# EAGLE library part OSM_1.2_SIZE_L (library Bauteile)
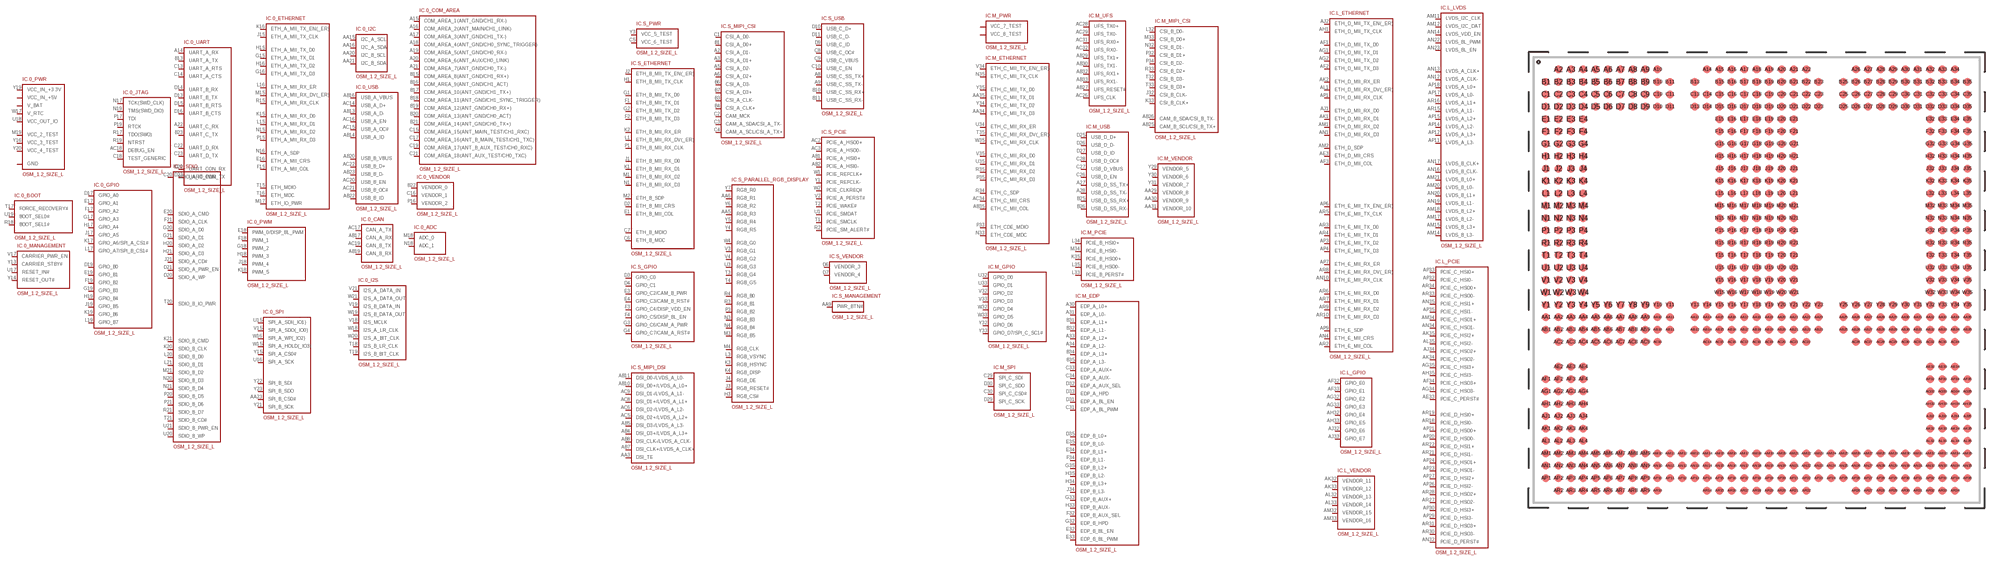
[diagram p212: symbol with the pads of OSM_1.2_SIZE_L; footprint OSM_1.2_SIZE_L]

Designator prefix IC; gates .0_PWR=OSM_1.2_SIZE_0_POWER .0_BOOT=OSM_1.2_SIZE_0_BOOT .0_JTAG=OSM_1.2_SIZE_0_JTAG .0_UART=OSM_1.2_SIZE_0_UART .0_ETHERNET=OSM_1.2_SIZE_0_ETHERNET .0_GPIO=OSM_1.2_SIZE_0_GPIO .0_SDIO=OSM_1.2_SIZE_0_SDIO .0_PWM=OSM_1.2_SIZE_0_PWM .0_ADC=OSM_1.2_SIZE_0_ADC .0_SPI=OSM_1.2_SIZE_0_SPI .0_I2S=OSM_1.2_SIZE_0_I2S .0_CAN=OSM_1.2_SIZE_0_CAN .0_USB=OSM_1.2_SIZE_0_USB .0_I2C=OSM_1.2_SIZE_0_I2C .0_COM_AREA=OSM_1.2_SIZE_0_COM_AREA .0_VENDOR=OSM_1.2_SIZE_0_VENDOR .0_MANAGEMENT=OSM_1.2_SIZE_0_MANAGEMENT .S_PWR=OSM_1.2_SIZE_S_POWER .S_ETHERNET=OSM_1.2_SIZE_S_ETHERNET .S_GPIO=OSM_1.2_SIZE_S_GPIO .S_MIPI_DSI=OSM_1.2_SIZE_S_MIPI_DSI .S_MIPI_CSI=OSM_1.2_SIZE_S_MIPI_CSI .S_PARALLEL_RGB_DISPLAY=OSM_1.2_SIZE_S_PARALLEL_RGB_DISPLAY .S_USB=OSM_1.2_SIZE_S_USB .S_PCIE=OSM_1.2_SIZE_S_PCIE .S_VENDOR=OSM_1.2_SIZE_S_VENDOR .S_MANAGEMENT=OSM_1.2_SIZE_S_MANAGEMENT .M_PWR=OSM_1.2_SIZE_M_POWER .M_ETHERNET=OSM_1.2_SIZE_M_ETHERNET .M_GPIO=OSM_1.2_SIZE_M_GPIO .M_SPI=OSM_1.2_SIZE_M_SPI .M_UFS=OSM_1.2_SIZE_M_UFS .M_USB=OSM_1.2_SIZE_M_USB .M_PCIE=OSM_1.2_SIZE_M_PCIE .M_EDP=OSM_1.2_SIZE_M_EDP(++) .M_MIPI_CSI=OSM_1.2_SIZE_M_MIPI_CSI .M_VENDOR=OSM_1.2_SIZE_M_VENDOR .L_ETHERNET=OSM_1.2_SIZE_L_ETHERNET .L_GPIO=OSM_1.2_SIZE_L_GPIO .L_LVDS=OSM_1.2_SIZE_L_LVDS .L_PCIE=OSM_1.2_SIZE_L_PCIE .L_VENDOR=OSM_1.2_SIZE_L_VENDOR

## OSM_1.2_SIZE_L  [OSM_1.2_SIZE_L]
A2  .S_MIPI_CSI:CSI_A_D1-
A3  .S_MIPI_CSI:CSI_A_D1+
A4  .0_PWR:GND
A5  .S_MIPI_CSI:CSI_A_D2-
A6  .S_MIPI_CSI:CSI_A_D2+
A7  .0_PWR:GND
A8  .S_USB:USB_C_SS_TX+
A9  .S_USB:USB_C_SS_TX-
A10  .0_PWR:GND
A14  .0_UART:UART_A_RX
A15  .0_COM_AREA:COM_AREA_1(ANT_GND/CH1_RX-)
A16  .0_COM_AREA:COM_AREA_2(ANT_MAIN/CH1_LINK)
A17  .0_COM_AREA:COM_AREA_3(ANT_GND/CH1_TX-)
A18  .0_COM_AREA:COM_AREA_4(ANT_GND/CH0_SYNC_TRIGGER)
A19  .0_COM_AREA:COM_AREA_5(ANT_GND/CH0_RX-)
A20  .0_COM_AREA:COM_AREA_6(ANT_AUX/CH0_LINK)
A21  .0_COM_AREA:COM_AREA_7(ANT_GND/CH0_TX-)
A22  .0_UART:UART_C_RX
A26  .0_PWR:GND
A27  .M_USB:USB_D_SS_TX+
A28  .M_USB:USB_D_SS_TX-
A29  .0_PWR:GND
A30  .M_EDP:EDP_A_L0+
A31  .M_EDP:EDP_A_L0-
A32  .0_PWR:GND
A33  .M_EDP:EDP_A_L2+
A34  .M_EDP:EDP_A_L2-
AA1  .0_PWR:GND
AA3  .S_MIPI_DSI:DSI_TE
AA4  .0_PWR:GND
AA5  .S_PARALLEL_RGB_DISPLAY:RGB_R3
AA6  .S_PARALLEL_RGB_DISPLAY:RGB_R1
AA7  .0_PWR:GND
AA8  .0_PWR:GND
AA9  .S_MANAGEMENT:PWR_BTN#
AA10  .0_PWR:GND
AA11  .0_PWR:GND
AA14  .0_PWR:GND
AA15  .0_I2C:I2C_A_SCL
AA16  .0_I2C:I2C_A_SDA
AA17  .0_PWR:GND
AA18  .0_PWR:V_BAT
AA19  .0_PWR:GND
AA20  .0_I2C:I2C_B_SCL
AA21  .0_I2C:I2C_B_SDA
AA22  .0_PWR:GND
AA23  .0_SPI:SPI_B_CS0#
AA25  .0_PWR:GND
AA26  .0_PWR:GND
AA27  .0_PWR:GND
AA28  .0_PWR:GND
AA29  .M_VENDOR:VENDOR_8
AA30  .M_VENDOR:VENDOR_9
AA31  .M_VENDOR:VENDOR_10
AA32  .0_PWR:GND
AA33  .M_PWR:VCC_7_TEST
AA34  .M_ETHERNET:ETH_C_MII_TX_D3
AA35  .M_ETHERNET:ETH_C_MII_TX_D1
AB1  .S_PCIE:PCIE_A_HSI0+
AB2  .S_PCIE:PCIE_A_HSI0-
AB3  .0_PWR:GND
AB4  .S_MIPI_DSI:DSI_D3+/LVDS_A_L3+
AB5  .S_MIPI_DSI:DSI_D3-/LVDS_A_L3-
AB6  .0_PWR:GND
AB7  .S_MIPI_DSI:DSI_CLK+/LVDS_A_CLK+
AB8  .S_MIPI_DSI:DSI_CLK-/LVDS_A_CLK-
AB9  .0_PWR:GND
AB10  .S_MIPI_DSI:DSI_D0+/LVDS_A_L0+
AB11  .S_MIPI_DSI:DSI_D0-/LVDS_A_L0-
AB13  .0_USB:USB_A_D-
AB14  .0_USB:USB_A_ID
AB15  .0_PWR:GND
AB16  .0_USB:USB_A_VBUS
AB17  .0_CAN:CAN_A_RX
AB18  .0_PWR:V_BAT
AB19  .0_CAN:CAN_B_RX
AB20  .0_USB:USB_B_VBUS
AB21  .0_PWR:GND
AB22  .0_USB:USB_B_ID
AB23  .0_USB:USB_B_D-
AB25  .M_MIPI_CSI:CAM_B_SCL/CSI_B_TX+
AB26  .M_MIPI_CSI:CAM_B_SDA/CSI_B_TX-
AB27  .M_UFS:UFS_RESET#
AB28  .0_PWR:GND
AB29  .M_UFS:UFS_TX1+
AB30  .M_UFS:UFS_TX1-
AB31  .0_PWR:GND
AB32  .M_UFS:UFS_RX1+
AB33  .M_UFS:UFS_RX1-
AB34  .0_PWR:GND
AB35  .M_ETHERNET:ETH_C_MII_COL
AC2  .S_PCIE:PCIE_A_HSO0+
AC3  .S_PCIE:PCIE_A_HSO0-
AC4  .0_PWR:GND
AC5  .S_MIPI_DSI:DSI_D2+/LVDS_A_L2+
AC6  .S_MIPI_DSI:DSI_D2-/LVDS_A_L2-
AC7  .0_PWR:GND
AC8  .S_MIPI_DSI:DSI_D1+/LVDS_A_L1+
AC9  .S_MIPI_DSI:DSI_D1-/LVDS_A_L1-
AC10  .0_PWR:GND
AC14  .0_USB:USB_A_D+
AC15  .0_USB:USB_A_OC#
AC16  .0_USB:USB_A_EN
AC17  .0_CAN:CAN_A_TX
AC18  .0_JTAG:DEBUG_EN
AC19  .0_CAN:CAN_B_TX
AC20  .0_USB:USB_B_EN
AC21  .0_USB:USB_B_OC#
AC22  .0_USB:USB_B_D+
AC26  .M_UFS:UFS_CLK
AC27  .0_PWR:GND
AC28  .M_UFS:UFS_TX0+
AC29  .M_UFS:UFS_TX0-
AC30  .0_PWR:GND
AC31  .M_UFS:UFS_RX0+
AC32  .M_UFS:UFS_RX0-
AC33  .0_PWR:GND
AC34  .M_ETHERNET:ETH_C_MII_CRS
AE2  .0_PWR:GND
AE3  .L_ETHERNET:ETH_D_MII_CRS
AE4  .0_PWR:VCC_IN_+5V
AE33  .L_PCIE:PCIE_C_PERST#
AE34  .0_PWR:GND
AF1  .L_ETHERNET:ETH_D_MII_TX_D0
AF2  .L_ETHERNET:ETH_D_MII_TX_D3
AF3  .L_ETHERNET:ETH_D_MII_COL
AF4  .0_PWR:VCC_IN_+5V
AF32  .L_GPIO:GPIO_E0
AF33  .L_GPIO:GPIO_E1
AF34  .L_PCIE:PCIE_C_HSO3+
AF35  .0_PWR:GND
AG1  .L_ETHERNET:ETH_D_MII_TX_D1
AG2  .L_ETHERNET:ETH_D_MII_TX_D2
AG3  .0_PWR:GND
AG4  .0_PWR:VCC_IN_+5V
AG32  .L_GPIO:GPIO_E2
AG33  .L_GPIO:GPIO_E3
AG34  .L_PCIE:PCIE_C_HSO3-
AG35  .L_PCIE:PCIE_C_HSI3+
AH1  .L_ETHERNET:ETH_D_MII_TX_CLK
AH2  .0_PWR:GND
AH3  .0_PWR:VCC_IN_+5V
AH4  .0_PWR:VCC_IN_+5V
AH32  .L_GPIO:GPIO_E4
AH33  .L_GPIO:GPIO_E5
AH34  .0_PWR:GND
AH35  .L_PCIE:PCIE_C_HSI3-
AJ1  .L_ETHERNET:ETH_D_MII_RX_D0
AJ2  .L_ETHERNET:ETH_D_MII_TX_EN(_ER)
AJ3  .0_PWR:VCC_IN_+5V
AJ4  .0_PWR:VCC_IN_+5V
AJ32  .L_GPIO:GPIO_E6
AJ33  .L_GPIO:GPIO_E7
AJ34  .L_PCIE:PCIE_C_HSO2+
AJ35  .0_PWR:GND
AK1  .L_ETHERNET:ETH_D_MII_RX_D1
AK2  .L_ETHERNET:ETH_D_MII_RX_ER
AK3  .0_PWR:GND
AK4  .0_PWR:VCC_IN_+5V
AK32  .L_VENDOR:VENDOR_11
AK33  .L_VENDOR:VENDOR_12
AK34  .L_PCIE:PCIE_C_HSO2-
AK35  .L_PCIE:PCIE_C_HSI2+
AL1  .L_ETHERNET:ETH_D_MII_RX_DV(_ER)
AL2  .0_PWR:GND
AL32  .L_VENDOR:VENDOR_13
AL33  .L_VENDOR:VENDOR_14
AL34  .0_PWR:GND
AL35  .L_PCIE:PCIE_C_HSI2-
AM1  .L_ETHERNET:ETH_D_MII_RX_D2
AM2  .L_ETHERNET:ETH_D_SDP
AM11  .L_LVDS:LVDS_I2C_CLK
AM12  .L_LVDS:LVDS_I2C_DAT
AM13  .0_PWR:GND
AM14  .L_LVDS:LVDS_B_L3-
AM15  .L_LVDS:LVDS_B_L3+
AM16  .0_PWR:GND
AM17  .L_LVDS:LVDS_B_L2-
AM18  .L_LVDS:LVDS_B_L2+
AM19  .0_PWR:GND
AM20  .L_LVDS:LVDS_B_L0-
AM21  .L_LVDS:LVDS_B_L0+
AM22  .0_PWR:GND
AM32  .L_VENDOR:VENDOR_15
AM33  .L_VENDOR:VENDOR_16
AM34  .L_PCIE:PCIE_C_HSO1+
AM35  .0_PWR:GND
AN1  .L_ETHERNET:ETH_D_MII_RX_D3
AN3  .0_PWR:GND
AN4  .L_ETHERNET:ETH_E_MII_CRS
AN6  .0_PWR:GND
AN9  .0_PWR:GND
AN10  .L_ETHERNET:ETH_E_MII_RX_CLK
AN11  .0_PWR:GND
AN12  .L_LVDS:LVDS_A_CLK-
AN13  .L_LVDS:LVDS_A_CLK+
AN14  .L_LVDS:LVDS_VDD_EN
AN15  .0_PWR:GND
AN16  .L_LVDS:LVDS_B_CLK-
AN17  .L_LVDS:LVDS_B_CLK+
AN18  .0_PWR:GND
AN19  .L_LVDS:LVDS_B_L1-
AN20  .L_LVDS:LVDS_B_L1+
AN21  .0_PWR:GND
AN22  .L_LVDS:LVDS_BL_PWM
AN23  .L_LVDS:LVDS_BL_EN
AN32  .L_PCIE:PCIE_D_PERST#
AN33  .0_PWR:GND
AN34  .L_PCIE:PCIE_C_HSO1-
AN35  .L_PCIE:PCIE_C_HSI1+
AP1  .L_ETHERNET:ETH_D_MII_RX_CLK
AP2  .0_PWR:GND
AP3  .L_ETHERNET:ETH_E_MII_TX_D2
AP4  .L_ETHERNET:ETH_E_MII_TX_D3
AP5  .0_PWR:GND
AP6  .L_ETHERNET:ETH_E_MII_TX_EN(_ER)
AP7  .L_ETHERNET:ETH_E_MII_RX_ER
AP8  .0_PWR:GND
AP9  .L_ETHERNET:ETH_E_SDP
AP11  .L_LVDS:LVDS_A_L3-
AP12  .L_LVDS:LVDS_A_L3+
AP13  .0_PWR:GND
AP14  .L_LVDS:LVDS_A_L2-
AP15  .L_LVDS:LVDS_A_L2+
AP16  .0_PWR:GND
AP17  .L_LVDS:LVDS_A_L0-
AP18  .L_LVDS:LVDS_A_L0+
AP19  .0_PWR:GND
AP20  .L_PCIE:PCIE_D_HSO0-
AP21  .L_PCIE:PCIE_D_HSO0+
AP22  .0_PWR:GND
AP23  .L_PCIE:PCIE_D_HSO1-
AP24  .L_PCIE:PCIE_D_HSO1+
AP25  .0_PWR:GND
AP26  .L_PCIE:PCIE_D_HSI2-
AP27  .L_PCIE:PCIE_D_HSI2+
AP28  .0_PWR:GND
AP29  .L_PCIE:PCIE_D_HSI3-
AP30  .L_PCIE:PCIE_D_HSI3+
AP31  .0_PWR:GND
AP32  .L_PCIE:PCIE_C_HSI0-
AP33  .L_PCIE:PCIE_C_HSI0+
AP34  .0_PWR:GND
AP35  .L_PCIE:PCIE_C_HSI1-
AR2  .L_ETHERNET:ETH_E_MII_COL
AR3  .L_ETHERNET:ETH_E_MII_TX_D0
AR4  .L_ETHERNET:ETH_E_MII_TX_D1
AR5  .L_ETHERNET:ETH_E_MII_TX_CLK
AR6  .L_ETHERNET:ETH_E_MII_RX_D0
AR7  .L_ETHERNET:ETH_E_MII_RX_D1
AR8  .L_ETHERNET:ETH_E_MII_RX_DV(_ER)
AR9  .L_ETHERNET:ETH_E_MII_RX_D2
AR10  .L_ETHERNET:ETH_E_MII_RX_D3
AR14  .0_PWR:GND
AR15  .L_LVDS:LVDS_A_L1-
AR16  .L_LVDS:LVDS_A_L1+
AR17  .0_PWR:GND
AR18  .L_PCIE:PCIE_D_HSI0-
AR19  .L_PCIE:PCIE_D_HSI0+
AR20  .0_PWR:GND
AR21  .L_PCIE:PCIE_D_HSI1-
AR22  .L_PCIE:PCIE_D_HSI1+
AR26  .0_PWR:GND
AR27  .L_PCIE:PCIE_D_HSO2-
AR28  .L_PCIE:PCIE_D_HSO2+
AR29  .0_PWR:GND
AR30  .L_PCIE:PCIE_D_HSO3-
AR31  .L_PCIE:PCIE_D_HSO3+
AR32  .0_PWR:GND
AR33  .L_PCIE:PCIE_C_HSO0-
AR34  .L_PCIE:PCIE_C_HSO0+
B1  .S_MIPI_CSI:CSI_A_D0+
B2  .0_PWR:GND
B3  .S_MIPI_CSI:CSI_A_CLK-
B4  .S_MIPI_CSI:CSI_A_CLK+
B5  .0_PWR:GND
B6  .S_MIPI_CSI:CSI_A_D3-
B7  .S_MIPI_CSI:CSI_A_D3+
B8  .0_PWR:GND
B9  .0_PWR:GND
B10  .S_USB:USB_C_SS_RX+
B11  .S_USB:USB_C_SS_RX-
B13  .0_UART:UART_A_TX
B15  .0_COM_AREA:COM_AREA_8(ANT_GND/CH1_RX+)
B16  .0_COM_AREA:COM_AREA_9(ANT_GND/CH1_ACT)
B17  .0_COM_AREA:COM_AREA_10(ANT_GND/CH1_TX+)
B18  .0_COM_AREA:COM_AREA_11(ANT_GND/CH1_SYNC_TRIGGER)
B19  .0_COM_AREA:COM_AREA_12(ANT_GND/CH0_RX+)
B20  .0_COM_AREA:COM_AREA_13(ANT_GND/CH0_ACT)
B21  .0_COM_AREA:COM_AREA_14(ANT_GND/CH0_TX+)
B22  .0_VENDOR:VENDOR_0
B23  .0_UART:UART_C_TX
B25  .M_USB:USB_D_SS_RX+
B26  .M_USB:USB_D_SS_RX-
B27  .0_PWR:GND
B28  .0_PWR:GND
B29  .M_PWR:VCC_8_TEST
B30  .0_PWR:GND
B31  .M_EDP:EDP_A_L1+
B32  .M_EDP:EDP_A_L1-
B33  .0_PWR:GND
B34  .M_EDP:EDP_A_L3+
B35  .M_EDP:EDP_A_L3-
C1  .S_MIPI_CSI:CSI_A_D0-
C2  .S_MIPI_CSI:CAM_MCK
C3  .S_MIPI_CSI:CAM_A_SDA/CSI_A_TX-
C4  .S_MIPI_CSI:CAM_A_SCL/CSI_A_TX+
C5  .S_PWR:VCC_6_TEST
C6  .S_ETHERNET:ETH_B_MDC
C7  .S_ETHERNET:ETH_B_MDIO
C8  .S_USB:USB_C_OC#
C9  .S_USB:USB_C_VBUS
C10  .S_USB:USB_C_EN
C11  .0_PWR:GND
C13  .0_UART:UART_A_RTS
C14  .0_UART:UART_A_CTS
C15  .0_COM_AREA:COM_AREA_15(ANT_MAIN_TEST/CH1_RXC)
C16  .0_VENDOR:VENDOR_1
C17  .0_COM_AREA:COM_AREA_16(ANT_B_MAIN_TEST/CH1_TXC)
C18  .0_JTAG:TEST_GENERIC
C19  .0_COM_AREA:COM_AREA_17(ANT_B_AUX_TEST/CH0_RXC)
C20  .0_SDIO:SDIO_A_IO_PWR
C21  .0_COM_AREA:COM_AREA_18(ANT_AUX_TEST/CH0_TXC)
C22  .0_UART:UART_D_RX
C23  .0_UART:UART_D_TX
C25  .0_PWR:GND
C26  .M_USB:USB_D_EN
C27  .M_USB:USB_D_VBUS
C28  .M_USB:USB_D_OC#
C29  .M_SPI:SPI_C_SDI
C30  .M_SPI:SPI_C_CS0#
C31  .M_EDP:EDP_A_BL_PWM
C32  .0_PWR:GND
C33  .M_EDP:EDP_A_AUX+
C34  .M_EDP:EDP_A_AUX-
C35  .0_PWR:GND
D1  .0_PWR:GND
D2  .S_ETHERNET:ETH_B_MII_CRS
D3  .S_GPIO:GPIO_C0
D4  .S_GPIO:GPIO_C1
D5  .0_PWR:GND
D6  .S_VENDOR:VENDOR_3
D7  .S_VENDOR:VENDOR_4
D8  .0_PWR:GND
D9  .S_USB:USB_C_ID
D10  .S_USB:USB_C_D+
D11  .S_USB:USB_C_D-
D13  .0_UART:UART_B_TX
D14  .0_UART:UART_B_RX
D15  .0_UART:UART_B_RTS
D16  .0_UART:UART_B_CTS
D17  .0_GPIO:GPIO_A0
D18  .0_PWR:GND
D19  .0_GPIO:GPIO_B0
D20  .0_SDIO:SDIO_A_WP
D21  .0_SDIO:SDIO_A_PWR_EN
D22  .0_UART:UART_CON_RX
D23  .0_UART:UART_CON_TX
D25  .M_USB:USB_D_D+
D26  .M_USB:USB_D_D-
D27  .M_USB:USB_D_ID
D28  .0_PWR:GND
D29  .M_SPI:SPI_C_SCK
D30  .M_SPI:SPI_C_SDO
D31  .M_EDP:EDP_A_BL_EN
D32  .M_EDP:EDP_A_AUX_SEL
D33  .M_EDP:EDP_A_HPD
D34  .0_PWR:GND
D35  .M_EDP:EDP_B_L0+
E1  .S_ETHERNET:ETH_B_MII_COL
E2  .0_PWR:GND
E3  .S_GPIO:GPIO_C2/CAM_B_PWR
E4  .S_GPIO:GPIO_C3/CAM_B_RST#
E15  .0_PWR:GND
E16  .0_ETHERNET:ETH_A_MII_CRS
E17  .0_GPIO:GPIO_A1
E18  .0_PWM:PWM_0/DISP_BL_PWM
E19  .0_GPIO:GPIO_B1
E20  .0_SDIO:SDIO_A_CMD
E21  .0_PWR:GND
E32  .M_EDP:EDP_B_BL_EN
E33  .M_EDP:EDP_B_BL_PWM
E34  .M_EDP:EDP_B_L1+
E35  .M_EDP:EDP_B_L0-
F1  .S_ETHERNET:ETH_B_MII_TX_D1
F2  .S_ETHERNET:ETH_B_MII_TX_D3
F3  .S_GPIO:GPIO_C4/DISP_VDD_EN
F4  .S_GPIO:GPIO_C5/DISP_BL_EN
F15  .0_ETHERNET:ETH_A_MII_COL
F16  .0_PWR:GND
F17  .0_GPIO:GPIO_A2
F18  .0_PWM:PWM_1
F19  .0_GPIO:GPIO_B2
F20  .0_PWR:GND
F21  .0_SDIO:SDIO_A_CLK
F32  .M_EDP:EDP_B_AUX_SEL
F33  .0_PWR:GND
F34  .M_EDP:EDP_B_L1-
F35  .0_PWR:GND
G1  .S_ETHERNET:ETH_B_MII_TX_D0
G2  .S_ETHERNET:ETH_B_MII_TX_D2
G3  .S_GPIO:GPIO_C6/CAM_A_PWR
G4  .S_GPIO:GPIO_C7/CAM_A_RST#
G15  .0_ETHERNET:ETH_A_MII_TX_D1
G16  .0_ETHERNET:ETH_A_MII_TX_D3
G17  .0_GPIO:GPIO_A3
G18  .0_PWM:PWM_2
G19  .0_GPIO:GPIO_B3
G20  .0_SDIO:SDIO_A_D0
G21  .0_SDIO:SDIO_A_D1
G32  .M_EDP:EDP_B_HPD
G33  .M_EDP:EDP_B_AUX+
G34  .0_PWR:GND
G35  .M_EDP:EDP_B_L2+
H1  .S_ETHERNET:ETH_B_MII_TX_CLK
H2  .0_PWR:GND
H3  .S_PARALLEL_RGB_DISPLAY:RGB_CS#
H4  .0_PWR:GND
H15  .0_ETHERNET:ETH_A_MII_TX_D0
H16  .0_ETHERNET:ETH_A_MII_TX_D2
H17  .0_GPIO:GPIO_A4
H18  .0_PWM:PWM_3
H19  .0_GPIO:GPIO_B4
H20  .0_SDIO:SDIO_A_D2
H21  .0_SDIO:SDIO_A_D3
H32  .0_PWR:GND
H33  .M_EDP:EDP_B_AUX-
H34  .M_EDP:EDP_B_L3+
H35  .M_EDP:EDP_B_L2-
J1  .S_ETHERNET:ETH_B_MII_RX_D0
J2  .S_ETHERNET:ETH_B_MII_TX_EN(_ER)
J3  .S_PARALLEL_RGB_DISPLAY:RGB_RESET#
J4  .S_PARALLEL_RGB_DISPLAY:RGB_DE
J15  .0_ETHERNET:ETH_A_MII_TX_CLK
J16  .0_PWR:GND
J17  .0_GPIO:GPIO_A5
J18  .0_PWM:PWM_4
J19  .0_GPIO:GPIO_B5
J20  .0_PWR:GND
J21  .0_SDIO:SDIO_A_CD#
J32  .M_MIPI_CSI:CSI_B_CLK-
J33  .0_PWR:GND
J34  .M_EDP:EDP_B_L3-
J35  .0_PWR:GND
K1  .S_ETHERNET:ETH_B_MII_RX_D1
K2  .S_ETHERNET:ETH_B_MII_RX_ER
K3  .S_PARALLEL_RGB_DISPLAY:RGB_HSYNC
K4  .S_PARALLEL_RGB_DISPLAY:RGB_DISP
K15  .0_ETHERNET:ETH_A_MII_RX_D0
K16  .0_ETHERNET:ETH_A_MII_TX_EN(_ER)
K17  .0_GPIO:GPIO_A6/SPI_A_CS1#
K18  .0_PWM:PWM_5
K19  .0_GPIO:GPIO_B6
K20  .0_SDIO:SDIO_B_CLK
K21  .0_SDIO:SDIO_B_CMD
K32  .0_PWR:GND
K33  .M_MIPI_CSI:CSI_B_CLK+
K34  .0_PWR:GND
K35  .M_PCIE:PCIE_B_HSO0+
L1  .S_ETHERNET:ETH_B_MII_RX_DV(_ER)
L2  .0_PWR:GND
L3  .S_PARALLEL_RGB_DISPLAY:RGB_VSYNC
L4  .0_PWR:GND
L15  .0_ETHERNET:ETH_A_MII_RX_D1
L16  .0_ETHERNET:ETH_A_MII_RX_ER
L17  .0_GPIO:GPIO_A7/SPI_B_CS1#
L18  .0_PWR:GND
L19  .0_GPIO:GPIO_B7
L20  .0_SDIO:SDIO_B_D0
L21  .0_SDIO:SDIO_B_D1
L32  .M_MIPI_CSI:CSI_B_D0-
L33  .M_PCIE:PCIE_B_PERST#
L34  .M_PCIE:PCIE_B_HSI0+
L35  .M_PCIE:PCIE_B_HSO0-
M1  .S_ETHERNET:ETH_B_MII_RX_D2
M2  .S_ETHERNET:ETH_B_SDP
M3  .S_PARALLEL_RGB_DISPLAY:RGB_B5
M4  .S_PARALLEL_RGB_DISPLAY:RGB_CLK
M15  .0_ETHERNET:ETH_A_MII_RX_DV(_ER)
M16  .0_PWR:GND
M17  .0_ETHERNET:ETH_IO_PWR
M18  .0_ADC:ADC_0
M19  .0_PWR:VCC_2_TEST
M20  .0_PWR:GND
M21  .0_SDIO:SDIO_B_D2
M32  .0_PWR:GND
M33  .M_MIPI_CSI:CSI_B_D0+
M34  .M_PCIE:PCIE_B_HSI0-
M35  .0_PWR:GND
N1  .S_ETHERNET:ETH_B_MII_RX_D3
N3  .S_PARALLEL_RGB_DISPLAY:RGB_B3
N4  .S_PARALLEL_RGB_DISPLAY:RGB_B4
N15  .0_ETHERNET:ETH_A_MII_RX_D2
N16  .0_ETHERNET:ETH_A_SDP
N17  .0_JTAG:TCK(SWD_CLK)
N18  .0_ADC:ADC_1
N19  .0_JTAG:TMS(SWD_DIO)
N20  .0_SDIO:SDIO_B_D3
N21  .0_SDIO:SDIO_B_D4
N32  .M_MIPI_CSI:CSI_B_D1-
N33  .M_ETHERNET:ETH_CDE_MDC
N34  .0_PWR:GND
N35  .M_ETHERNET:ETH_C_MII_TX_CLK
P1  .S_ETHERNET:ETH_B_MII_RX_CLK
P2  .0_PWR:GND
P3  .S_PARALLEL_RGB_DISPLAY:RGB_B2
P4  .0_PWR:GND
P15  .0_ETHERNET:ETH_A_MII_RX_D3
P16  .0_VENDOR:VENDOR_2
P17  .0_JTAG:TDI
P18  .0_PWR:GND
P19  .0_JTAG:RTCK
P20  .0_SDIO:SDIO_B_D5
P21  .0_SDIO:SDIO_B_D6
P32  .M_MIPI_CSI:CSI_B_D1+
P33  .M_ETHERNET:ETH_CDE_MDIO
P34  .M_MIPI_CSI:CSI_B_D2-
P35  .M_ETHERNET:ETH_C_MII_RX_D3
R1  .0_PWR:GND
R2  .S_PCIE:PCIE_SM_ALERT#
R3  .S_PARALLEL_RGB_DISPLAY:RGB_B1
R4  .S_PARALLEL_RGB_DISPLAY:RGB_B0
R15  .0_ETHERNET:ETH_A_MII_RX_CLK
R16  .0_PWR:GND
R17  .0_JTAG:TDO(SWO)
R18  .0_BOOT:BOOT_SEL1#
R19  .0_JTAG:NTRST
R20  .0_PWR:GND
R21  .0_SDIO:SDIO_B_D7
R32  .0_PWR:GND
R33  .M_MIPI_CSI:CSI_B_D2+
R34  .M_ETHERNET:ETH_C_SDP
R35  .M_ETHERNET:ETH_C_MII_RX_D2
T1  .S_PCIE:PCIE_SMCLK
T2  .S_PCIE:PCIE_WAKE#
T3  .S_PARALLEL_RGB_DISPLAY:RGB_G4
T4  .S_PARALLEL_RGB_DISPLAY:RGB_G5
T15  .0_ETHERNET:ETH_MDIO
T16  .0_ETHERNET:ETH_MDC
T17  .0_BOOT:FORCE_RECOVERY#
T18  .0_I2S:I2S_B_LR_CLK
T19  .0_I2S:I2S_B_BIT_CLK
T20  .0_SDIO:SDIO_B_IO_PWR
T21  .0_SDIO:SDIO_B_CD#
T32  .M_MIPI_CSI:CSI_B_D3-
T33  .M_MIPI_CSI:CSI_B_D3+
T34  .0_PWR:GND
T35  .M_ETHERNET:ETH_C_MII_RX_DV(_ER)
U1  .S_PCIE:PCIE_SMDAT
U2  .0_PWR:GND
U3  .S_PARALLEL_RGB_DISPLAY:RGB_G3
U4  .0_PWR:GND
U15  .0_SPI:SPI_A_SDI(_IO1)
U16  .0_SPI:SPI_A_SCK
U17  .0_MANAGEMENT:RESET_IN#
U18  .0_PWR:VCC_OUT_IO
U19  .0_BOOT:BOOT_SEL0#
U20  .0_SDIO:SDIO_B_WP
U21  .0_SDIO:SDIO_B_PWR_EN
U32  .M_GPIO:GPIO_D0
U33  .M_GPIO:GPIO_D1
U34  .M_ETHERNET:ETH_C_MII_RX_ER
U35  .M_ETHERNET:ETH_C_MII_RX_D1
V1  .0_PWR:GND
V2  .S_PCIE:PCIE_A_PERST#
V3  .S_PARALLEL_RGB_DISPLAY:RGB_G1
V4  .S_PARALLEL_RGB_DISPLAY:RGB_G2
V15  .0_SPI:SPI_A_SDO(_IO0)
V16  .0_PWR:GND
V17  .0_MANAGEMENT:CARRIER_PWR_EN
V18  .0_I2S:I2S_MCLK
V19  .0_I2S:I2S_B_DATA_IN
V20  .0_PWR:GND
V21  .0_I2S:I2S_A_DATA_IN
V32  .M_GPIO:GPIO_D2
V33  .M_GPIO:GPIO_D3
V34  .M_ETHERNET:ETH_C_MII_TX_EN(_ER)
V35  .M_ETHERNET:ETH_C_MII_RX_D0
W1  .S_PCIE:PCIE_REFCLK+
W2  .S_PCIE:PCIE_CLKREQ#
W3  .0_PWR:GND
W4  .S_PARALLEL_RGB_DISPLAY:RGB_G0
W15  .0_SPI:SPI_A_HOLD(_IO3)
W16  .0_SPI:SPI_A_WP(_IO2)
W17  .0_PWR:V_RTC
W18  .0_I2S:I2S_A_LR_CLK
W19  .0_I2S:I2S_B_DATA_OUT
W20  .0_I2S:I2S_A_BIT_CLK
W21  .0_I2S:I2S_A_DATA_OUT
W32  .M_GPIO:GPIO_D4
W33  .M_GPIO:GPIO_D5
W34  .0_PWR:GND
W35  .M_ETHERNET:ETH_C_MII_RX_CLK
Y1  .S_PCIE:PCIE_REFCLK-
Y2  .0_PWR:GND
Y3  .S_PWR:VCC_5_TEST
Y4  .S_PARALLEL_RGB_DISPLAY:RGB_R5
Y5  .S_PARALLEL_RGB_DISPLAY:RGB_R4
Y6  .S_PARALLEL_RGB_DISPLAY:RGB_R2
Y7  .S_PARALLEL_RGB_DISPLAY:RGB_R0
Y8  .0_PWR:VCC_IN_+5V
Y9  .0_PWR:VCC_IN_+5V
Y10  .0_PWR:VCC_IN_+5V
Y11  .0_PWR:VCC_IN_+5V
Y13  .0_MANAGEMENT:CARRIER_STBY#
Y14  .0_MANAGEMENT:RESET_OUT#
Y15  .0_SPI:SPI_A_CS0#
Y16  .0_PWR:VCC_3_TEST
Y17  .0_PWR:VCC_IN_+5V
Y18  .0_PWR:GND
Y19  .0_PWR:VCC_IN_+3.3V
Y20  .0_PWR:VCC_4_TEST
Y21  .0_SPI:SPI_B_SCK
Y22  .0_SPI:SPI_B_SDI
Y23  .0_SPI:SPI_B_SDO
Y25  .0_PWR:VCC_IN_+5V
Y26  .0_PWR:VCC_IN_+5V
Y27  .0_PWR:VCC_IN_+5V
Y28  .0_PWR:VCC_IN_+5V
Y29  .M_VENDOR:VENDOR_5
Y30  .M_VENDOR:VENDOR_6
Y31  .M_VENDOR:VENDOR_7
Y32  .M_GPIO:GPIO_D6
Y33  .M_GPIO:GPIO_D7/SPI_C_SC1#
Y34  .M_ETHERNET:ETH_C_MII_TX_D2
Y35  .M_ETHERNET:ETH_C_MII_TX_D0

## Footprint OSM_1.2_SIZE_L (pad centres in mm)
smd 0.8 x 0.8: A2 -20,21.25; A3 -18.75,21.25; A4 -17.5,21.25; A5 -16.25,21.25; A6 -15,21.25; A7 -13.75,21.25; A8 -12.5,21.25; A9 -11.25,21.25; A10 -10,21.25; A14 -5,21.25; A15 -3.75,21.25; A16 -2.5,21.25; A17 -1.25,21.25; A18 0,21.25; A19 1.25,21.25; A20 2.5,21.25; A21 3.75,21.25; A22 5,21.25; A26 10,21.25; A27 11.25,21.25; A28 12.5,21.25; A29 13.75,21.25; A30 15,21.25; A31 16.25,21.25; A32 17.5,21.25; A33 18.75,21.25; A34 20,21.25; AA1 -21.25,-3.75; AA2 -20,-3.75; AA3 -18.75,-3.75; AA4 -17.5,-3.75; AA5 -16.25,-3.75; AA6 -15,-3.75; AA7 -13.75,-3.75; AA8 -12.5,-3.75; AA9 -11.25,-3.75; AA10 -10,-3.75; AA11 -8.75,-3.75; AA13 -6.25,-3.75; AA14 -5,-3.75; AA15 -3.75,-3.75; AA16 -2.5,-3.75; AA17 -1.25,-3.75; AA18 0,-3.75; AA19 1.25,-3.75; AA20 2.5,-3.75; AA21 3.75,-3.75; AA22 5,-3.75; AA23 6.25,-3.75; AA25 8.75,-3.75; AA26 10,-3.75; AA27 11.25,-3.75; AA28 12.5,-3.75; AA29 13.75,-3.75; AA30 15,-3.75; AA31 16.25,-3.75; AA32 17.5,-3.75; AA33 18.75,-3.75; AA34 20,-3.75; AA35 21.25,-3.75; AB1 -21.25,-5; AB2 -20,-5; AB3 -18.75,-5; AB4 -17.5,-5; AB5 -16.25,-5; AB6 -15,-5; AB7 -13.75,-5; AB8 -12.5,-5; AB9 -11.25,-5; AB10 -10,-5; AB11 -8.75,-5; AB13 -6.25,-5; AB14 -5,-5; AB15 -3.75,-5; AB16 -2.5,-5; AB17 -1.25,-5; AB18 0,-5; AB19 1.25,-5; AB20 2.5,-5; AB21 3.75,-5; AB22 5,-5; AB23 6.25,-5; AB25 8.75,-5; AB26 10,-5; AB27 11.25,-5; AB28 12.5,-5; AB29 13.75,-5; AB30 15,-5; AB31 16.25,-5; AB32 17.5,-5; AB33 18.75,-5; AB34 20,-5; AB35 21.25,-5; AC2 -20,-6.25; AC3 -18.75,-6.25; AC4 -17.5,-6.25; AC5 -16.25,-6.25; AC6 -15,-6.25; AC7 -13.75,-6.25; AC8 -12.5,-6.25; AC9 -11.25,-6.25; AC10 -10,-6.25; AC14 -5,-6.25; AC15 -3.75,-6.25; AC16 -2.5,-6.25; AC17 -1.25,-6.25; AC18 0,-6.25; AC19 1.25,-6.25; AC20 2.5,-6.25; AC21 3.75,-6.25; AC22 5,-6.25; AC26 10,-6.25; AC27 11.25,-6.25; AC28 12.5,-6.25; AC29 13.75,-6.25; AC30 15,-6.25; AC31 16.25,-6.25; AC32 17.5,-6.25; AC33 18.75,-6.25; AC34 20,-6.25; AE2 -20,-8.75; AE3 -18.75,-8.75; AE4 -17.5,-8.75; AE32 17.5,-8.75; AE33 18.75,-8.75; AE34 20,-8.75; AF1 -21.25,-10; AF2 -20,-10; AF3 -18.75,-10; AF4 -17.5,-10; AF32 17.5,-10; AF33 18.75,-10; AF34 20,-10; AF35 21.25,-10; AG1 -21.25,-11.25; AG2 -20,-11.25; AG3 -18.75,-11.25; AG4 -17.5,-11.25; AG32 17.5,-11.25; AG33 18.75,-11.25; AG34 20,-11.25; AG35 21.25,-11.25; AH1 -21.25,-12.5; AH2 -20,-12.5; AH3 -18.75,-12.5; AH4 -17.5,-12.5; AH32 17.5,-12.5; AH33 18.75,-12.5; AH34 20,-12.5; AH35 21.25,-12.5; AJ1 -21.25,-13.75; AJ2 -20,-13.75; AJ3 -18.75,-13.75; AJ4 -17.5,-13.75; AJ32 17.5,-13.75; AJ33 18.75,-13.75; AJ34 20,-13.75; AJ35 21.25,-13.75; AK1 -21.25,-15; AK2 -20,-15; AK3 -18.75,-15; AK4 -17.5,-15; AK32 17.5,-15; AK33 18.75,-15; AK34 20,-15; AK35 21.25,-15; AL1 -21.25,-16.25; AL2 -20,-16.25; AL3 -18.75,-16.25; AL4 -17.5,-16.25; AL32 17.5,-16.25; AL33 18.75,-16.25; AL34 20,-16.25; AL35 21.25,-16.25; AM1 -21.25,-17.5; AM2 -20,-17.5; AM3 -18.75,-17.5; AM4 -17.5,-17.5; AM5 -16.25,-17.5; AM6 -15,-17.5; AM7 -13.75,-17.5; AM8 -12.5,-17.5; AM9 -11.25,-17.5; AM10 -10,-17.5; AM11 -8.75,-17.5; AM12 -7.5,-17.5; AM13 -6.25,-17.5; AM14 -5,-17.5; AM15 -3.75,-17.5; AM16 -2.5,-17.5; AM17 -1.25,-17.5; AM18 0,-17.5; AM19 1.25,-17.5; AM20 2.5,-17.5; AM21 3.75,-17.5; AM22 5,-17.5; AM23 6.25,-17.5; AM24 7.5,-17.5; AM25 8.75,-17.5; AM26 10,-17.5; AM27 11.25,-17.5; AM28 12.5,-17.5; AM29 13.75,-17.5; AM30 15,-17.5; AM31 16.25,-17.5; AM32 17.5,-17.5; AM33 18.75,-17.5; AM34 20,-17.5; AM35 21.25,-17.5; AN1 -21.25,-18.75; AN2 -20,-18.75; AN3 -18.75,-18.75; AN4 -17.5,-18.75; AN5 -16.25,-18.75; AN6 -15,-18.75; AN7 -13.75,-18.75; AN8 -12.5,-18.75; AN9 -11.25,-18.75; AN10 -10,-18.75; AN11 -8.75,-18.75; AN12 -7.5,-18.75; AN13 -6.25,-18.75; AN14 -5,-18.75; AN15 -3.75,-18.75; AN16 -2.5,-18.75; AN17 -1.25,-18.75; AN18 0,-18.75; AN19 1.25,-18.75; AN20 2.5,-18.75; AN21 3.75,-18.75; AN22 5,-18.75; AN23 6.25,-18.75; AN24 7.5,-18.75; AN25 8.75,-18.75; AN26 10,-18.75; AN27 11.25,-18.75; AN28 12.5,-18.75; AN29 13.75,-18.75; AN30 15,-18.75; AN31 16.25,-18.75; AN32 17.5,-18.75; AN33 18.75,-18.75; AN34 20,-18.75; AN35 21.25,-18.75; AP1 -21.25,-20; AP2 -20,-20; AP3 -18.75,-20; AP4 -17.5,-20; AP5 -16.25,-20; AP6 -15,-20; AP7 -13.75,-20; AP8 -12.5,-20; AP9 -11.25,-20; AP10 -10,-20; AP11 -8.75,-20; AP12 -7.5,-20; AP13 -6.25,-20; AP14 -5,-20; AP15 -3.75,-20; AP16 -2.5,-20; AP17 -1.25,-20; AP18 0,-20; AP19 1.25,-20; AP20 2.5,-20; AP21 3.75,-20; AP22 5,-20; AP23 6.25,-20; AP24 7.5,-20; AP25 8.75,-20; AP26 10,-20; AP27 11.25,-20; AP28 12.5,-20; AP29 13.75,-20; AP30 15,-20; AP31 16.25,-20; AP32 17.5,-20; AP33 18.75,-20; AP34 20,-20; AP35 21.25,-20; AR2 -20,-21.25; AR3 -18.75,-21.25; AR4 -17.5,-21.25; AR5 -16.25,-21.25; AR6 -15,-21.25; AR7 -13.75,-21.25; AR8 -12.5,-21.25; AR9 -11.25,-21.25; AR10 -10,-21.25; AR14 -5,-21.25; AR15 -3.75,-21.25; AR16 -2.5,-21.25; AR17 -1.25,-21.25; AR18 0,-21.25; AR19 1.25,-21.25; AR20 2.5,-21.25; AR21 3.75,-21.25; AR22 5,-21.25; AR26 10,-21.25; AR27 11.25,-21.25; AR28 12.5,-21.25; AR29 13.75,-21.25; AR30 15,-21.25; AR31 16.25,-21.25; AR32 17.5,-21.25; AR33 18.75,-21.25; AR34 20,-21.25; B1 -21.25,20; B2 -20,20; B3 -18.75,20; B4 -17.5,20; B5 -16.25,20; B6 -15,20; B7 -13.75,20; B8 -12.5,20; B9 -11.25,20; B10 -10,20; B11 -8.75,20; B13 -6.25,20; B15 -3.75,20; B16 -2.5,20; B17 -1.25,20; B18 0,20; B19 1.25,20; B20 2.5,20; B21 3.75,20; B22 5,20; B23 6.25,20; B25 8.75,20; B26 10,20; B27 11.25,20; B28 12.5,20; B29 13.75,20; B30 15,20; B31 16.25,20; B32 17.5,20; B33 18.75,20; B34 20,20; B35 21.25,20; C1 -21.25,18.75; C2 -20,18.75; C3 -18.75,18.75; C4 -17.5,18.75; C5 -16.25,18.75; C6 -15,18.75; C7 -13.75,18.75; C8 -12.5,18.75; C9 -11.25,18.75; C10 -10,18.75; C11 -8.75,18.75; C13 -6.25,18.75; C14 -5,18.75; C15 -3.75,18.75; C16 -2.5,18.75; C17 -1.25,18.75; C18 0,18.75; C19 1.25,18.75; C20 2.5,18.75; C21 3.75,18.75; C22 5,18.75; C23 6.25,18.75; C25 8.75,18.75; C26 10,18.75; C27 11.25,18.75; C28 12.5,18.75; C29 13.75,18.75; C30 15,18.75; C31 16.25,18.75; C32 17.5,18.75; C33 18.75,18.75; C34 20,18.75; C35 21.25,18.75; D1 -21.25,17.5; D2 -20,17.5; D3 -18.75,17.5; D4 -17.5,17.5; D5 -16.25,17.5; D6 -15,17.5; D7 -13.75,17.5; D8 -12.5,17.5; D9 -11.25,17.5; D10 -10,17.5; D11 -8.75,17.5; D13 -6.25,17.5; D14 -5,17.5; D15 -3.75,17.5; D16 -2.5,17.5; D17 -1.25,17.5; D18 0,17.5; D19 1.25,17.5; D20 2.5,17.5; D21 3.75,17.5; D22 5,17.5; D23 6.25,17.5; D25 8.75,17.5; D26 10,17.5; D27 11.25,17.5; D28 12.5,17.5; D29 13.75,17.5; D30 15,17.5; D31 16.25,17.5; D32 17.5,17.5; D33 18.75,17.5; D34 20,17.5; D35 21.25,17.5; E1 -21.25,16.25; E2 -20,16.25; E3 -18.75,16.25; E4 -17.5,16.25; E15 -3.75,16.25; E16 -2.5,16.25; E17 -1.25,16.25; E18 0,16.25; E19 1.25,16.25; E20 2.5,16.25; E21 3.75,16.25; E32 17.5,16.25; E33 18.75,16.25; E34 20,16.25; E35 21.25,16.25; F1 -21.25,15; F2 -20,15; F3 -18.75,15; F4 -17.5,15; F15 -3.75,15; F16 -2.5,15; F17 -1.25,15; F18 0,15; F19 1.25,15; F20 2.5,15; F21 3.75,15; F32 17.5,15; F33 18.75,15; F34 20,15; F35 21.25,15; G1 -21.25,13.75; G2 -20,13.75; G3 -18.75,13.75; G4 -17.5,13.75; G15 -3.75,13.75; G16 -2.5,13.75; G17 -1.25,13.75; G18 0,13.75; G19 1.25,13.75; G20 2.5,13.75; G21 3.75,13.75; G32 17.5,13.75; G33 18.75,13.75; G34 20,13.75; G35 21.25,13.75; H1 -21.25,12.5; H2 -20,12.5; H3 -18.75,12.5; H4 -17.5,12.5; H15 -3.75,12.5; H16 -2.5,12.5; H17 -1.25,12.5; H18 0,12.5; H19 1.25,12.5; H20 2.5,12.5; H21 3.75,12.5; H32 17.5,12.5; H33 18.75,12.5; H34 20,12.5; H35 21.25,12.5; J1 -21.25,11.25; J2 -20,11.25; J3 -18.75,11.25; J4 -17.5,11.25; J15 -3.75,11.25; J16 -2.5,11.25; J17 -1.25,11.25; J18 0,11.25; J19 1.25,11.25; J20 2.5,11.25; J21 3.75,11.25; J32 17.5,11.25; J33 18.75,11.25; J34 20,11.25; J35 21.25,11.25; K1 -21.25,10; K2 -20,10; K3 -18.75,10; K4 -17.5,10; K15 -3.75,10; K16 -2.5,10; K17 -1.25,10; K18 0,10; K19 1.25,10; K20 2.5,10; K21 3.75,10; K32 17.5,10; K33 18.75,10; K34 20,10; K35 21.25,10; L1 -21.25,8.75; L2 -20,8.75; L3 -18.75,8.75; L4 -17.5,8.75; L15 -3.75,8.75; L16 -2.5,8.75; L17 -1.25,8.75; L18 0,8.75; L19 1.25,8.75; L20 2.5,8.75; L21 3.75,8.75; L32 17.5,8.75; L33 18.75,8.75; L34 20,8.75; L35 21.25,8.75; M1 -21.25,7.5; M2 -20,7.5; M3 -18.75,7.5; M4 -17.5,7.5; M15 -3.75,7.5; M16 -2.5,7.5; M17 -1.25,7.5; M18 0,7.5; M19 1.25,7.5; M20 2.5,7.5; M21 3.75,7.5; M32 17.5,7.5; M33 18.75,7.5; M34 20,7.5; M35 21.25,7.5; N1 -21.25,6.25; N2 -20,6.25; N3 -18.75,6.25; N4 -17.5,6.25; N15 -3.75,6.25; N16 -2.5,6.25; N17 -1.25,6.25; N18 0,6.25; N19 1.25,6.25; N20 2.5,6.25; N21 3.75,6.25; N32 17.5,6.25; N33 18.75,6.25; N34 20,6.25; N35 21.25,6.25; P1 -21.25,5; P2 -20,5; P3 -18.75,5; P4 -17.5,5; P15 -3.75,5; P16 -2.5,5; P17 -1.25,5; P18 0,5; P19 1.25,5; P20 2.5,5; P21 3.75,5; P32 17.5,5; P33 18.75,5; P34 20,5; P35 21.25,5; R1 -21.25,3.75; R2 -20,3.75; R3 -18.75,3.75; R4 -17.5,3.75; R15 -3.75,3.75; R16 -2.5,3.75; R17 -1.25,3.75; R18 0,3.75; R19 1.25,3.75; R20 2.5,3.75; R21 3.75,3.75; R32 17.5,3.75; R33 18.75,3.75; R34 20,3.75; R35 21.25,3.75; T1 -21.25,2.5; T2 -20,2.5; T3 -18.75,2.5; T4 -17.5,2.5; T15 -3.75,2.5; T16 -2.5,2.5; T17 -1.25,2.5; T18 0,2.5; T19 1.25,2.5; T20 2.5,2.5; T21 3.75,2.5; T32 17.5,2.5; T33 18.75,2.5; T34 20,2.5; T35 21.25,2.5; U1 -21.25,1.25; U2 -20,1.25; U3 -18.75,1.25; U4 -17.5,1.25; U15 -3.75,1.25; U16 -2.5,1.25; U17 -1.25,1.25; U18 0,1.25; U19 1.25,1.25; U20 2.5,1.25; U21 3.75,1.25; U32 17.5,1.25; U33 18.75,1.25; U34 20,1.25; U35 21.25,1.25; V1 -21.25,0; V2 -20,0; V3 -18.75,0; V4 -17.5,0; V15 -3.75,0; V16 -2.5,0; V17 -1.25,0; V18 0,0; V19 1.25,0; V20 2.5,0; V21 3.75,0; V32 17.5,0; V33 18.75,0; V34 20,0; V35 21.25,0; W1 -21.25,-1.25; W2 -20,-1.25; W3 -18.75,-1.25; W4 -17.5,-1.25; W15 -3.75,-1.25; W16 -2.5,-1.25; W17 -1.25,-1.25; W18 0,-1.25; W19 1.25,-1.25; W20 2.5,-1.25; W21 3.75,-1.25; W32 17.5,-1.25; W33 18.75,-1.25; W34 20,-1.25; W35 21.25,-1.25; Y1 -21.25,-2.5; Y2 -20,-2.5; Y3 -18.75,-2.5; Y4 -17.5,-2.5; Y5 -16.25,-2.5; Y6 -15,-2.5; Y7 -13.75,-2.5; Y8 -12.5,-2.5; Y9 -11.25,-2.5; Y10 -10,-2.5; Y11 -8.75,-2.5; Y13 -6.25,-2.5; Y14 -5,-2.5; Y15 -3.75,-2.5; Y16 -2.5,-2.5; Y17 -1.25,-2.5; Y18 0,-2.5; Y19 1.25,-2.5; Y20 2.5,-2.5; Y21 3.75,-2.5; Y22 5,-2.5; Y23 6.25,-2.5; Y25 8.75,-2.5; Y26 10,-2.5; Y27 11.25,-2.5; Y28 12.5,-2.5; Y29 13.75,-2.5; Y30 15,-2.5; Y31 16.25,-2.5; Y32 17.5,-2.5; Y33 18.75,-2.5; Y34 20,-2.5; Y35 21.25,-2.5